# Altium footprint library SD87340-12 WITHOUT HOLE.PcbLib: 1 footprints
Each footprint in its own frame and in the unit in brackets; x right, y up, seen from the top. Pads: shape width x height; smd on the part's side, far side on the other; paste and mask are expansions set on the pad; w line width, h text height; cw(c..) or ccw(c..) is an arc to the next point about the centre after c.
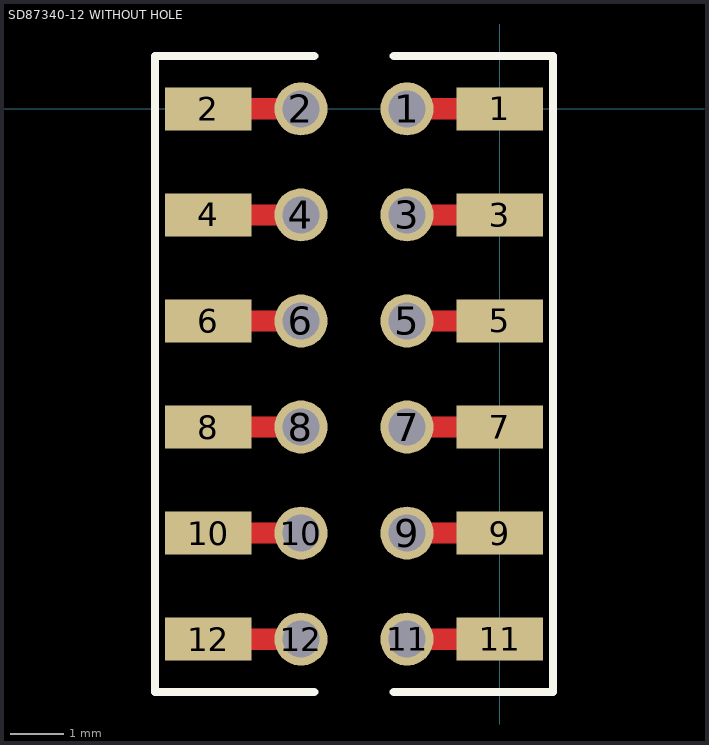
[diagram p0: the footprint, top view; thin cyan lines are the x and y axes]

## SD87340-12 WITHOUT HOLE [mm]
pads (24):
  round 1 hole 0.7: 1(-1.75,0) 2(-3.75,0) 3(-1.75,-2) 4(-3.75,-2) 5(-1.75,-4) 6(-3.75,-4) 7(-1.75,-6) 8(-3.75,-6) 9(-1.75,-8) 10(-3.75,-8) 11(-1.75,-10) 12(-3.75,-10)
  rect 1.626x0.813 smd: 1(0,0) 2(-5.5,0) 3(0,-2) 4(-5.5,-2) 5(0,-4) 6(-5.5,-4) 7(0,-6) 8(-5.5,-6) 9(0,-8) 10(-5.5,-8) 11(0,-10) 12(-5.5,-10)
Top Layer:
  lines w0.4: -5.5,-10 -3.75,-10 ; -5.5,-8 -3.75,-8 ; -5.5,-6 -3.75,-6 ; -5.5,-4 -3.75,-4 ; -5.5,-2 -3.75,-2 ; -5.5,0 -3.75,0 ; -1.75,-10 0,-10 ; -1.75,-8 0,-8 ; -1.75,-6 0,-6 ; -1.75,-4 0,-4 ; -1.75,-2 0,-2 ; -1.75,0 0,0
Top Overlay:
  lines w0.152: -6.5,-7 -6.5,-11 ; -3.5,-11 -6.5,-11 ; -3.5,1 -6.5,1 -6.5,-11 ; -2,-11 1,-11 ; -2,1 1,1 1,-11 ; 1,-7 1,-11
3D body "SD87340-12.STEP": height 2.1, standoff 0, extent -5.7,-11 0.3,1